# Altium footprint library STSPIN32F0.PcbLib: 1 footprints
Each footprint in its own frame and in the unit in brackets; x right, y up, seen from the top. Pads: shape width x height; smd on the part's side, far side on the other; paste and mask are expansions set on the pad; w line width, h text height; cw(c..) or ccw(c..) is an arc to the next point about the centre after c.
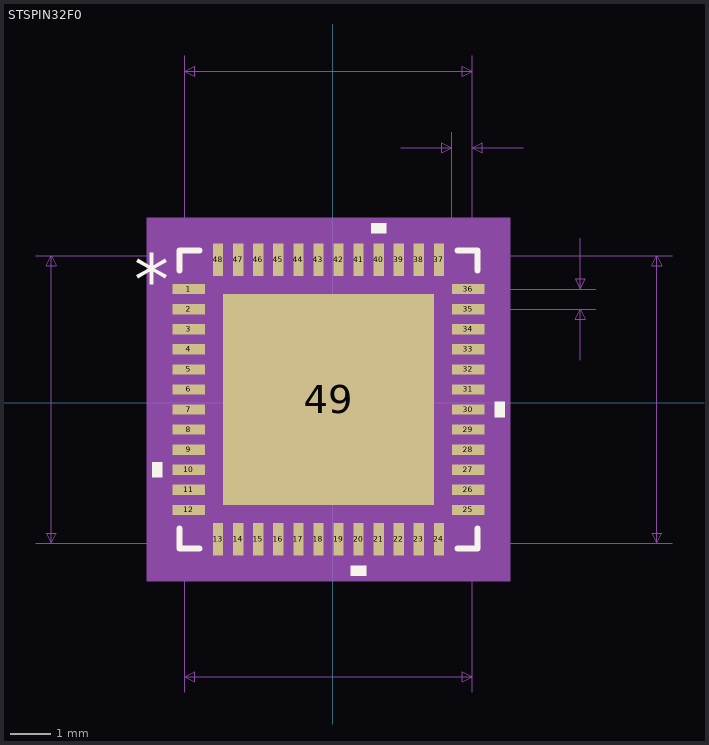
[diagram p0: the footprint, top view; thin cyan lines are the x and y axes]

## STSPIN32F0 [mil]
pads (49):
  rect 32x10 smd paste+0 mask+0: 1(-141.21,111.61) 2(-141.21,91.93) 3(-141.21,72.24) 4(-141.21,52.56) 5(-141.21,32.87) 6(-141.21,13.19) 7(-141.21,-6.5) 8(-141.21,-26.18) 9(-141.21,-45.87) 10(-141.21,-65.55) 11(-141.21,-85.24) 12(-141.21,-104.92) 25(132.79,-104.92) 26(132.79,-85.24) 27(132.79,-65.55) 28(132.79,-45.87) 29(132.79,-26.18) 30(132.79,-6.5) 31(132.79,13.19) 32(132.79,32.87) 33(132.79,52.56) 34(132.79,72.24) 35(132.79,91.93) 36(132.79,111.61)
  rect 10x32 smd paste+0 mask+0: 13(-112.48,-133.65) 14(-92.8,-133.65) 15(-73.11,-133.65) 16(-53.43,-133.65) 17(-33.74,-133.65) 18(-14.06,-133.65) 19(5.63,-133.65) 20(25.32,-133.65) 21(45,-133.65) 22(64.69,-133.65) 23(84.37,-133.65) 24(104.06,-133.65) 37(104.06,140.35) 38(84.37,140.35) 39(64.69,140.35) 40(45,140.35) 41(25.32,140.35) 42(5.63,140.35) 43(-14.06,140.35) 44(-33.74,140.35) 45(-53.43,140.35) 46(-73.11,140.35) 47(-92.8,140.35) 48(-112.48,140.35)
  rect 207x207 smd paste-103 mask+0: 49(-4.21,3.35)
Top Overlay:
  region: -167.21,-58.05 -177.21,-58.05 -177.21,-73.05 -167.21,-73.05
  region: 32.81,-159.65 17.82,-159.65 17.82,-169.65 32.81,-169.65
  region: 158.79,1 168.79,1 168.79,-14 158.79,-14
  region: 52.5,166.35 37.5,166.35 37.5,176.35 52.5,176.35
  lines w6: -150.21,-123.02 -150.21,-142.65 -130.58,-142.65 ; -150.21,129.71 -150.21,149.35 -130.58,149.35 ; 122.16,-142.65 141.79,-142.65 141.79,-123.02 ; 122.16,149.35 141.79,149.35 141.79,129.71
  text "*" at -194.71,96.46 h50
Top Paste:
  region: -59.9,102.91 -103.78,102.91 -103.78,59.03 -59.9,59.03
  region: -59.9,51.16 -103.78,51.16 -103.78,7.28 -59.9,7.28
  region: -59.9,-0.59 -103.78,-0.59 -103.78,-44.47 -59.9,-44.47
  region: -59.9,-52.34 -103.78,-52.34 -103.78,-96.22 -59.9,-96.22
  region: -8.15,102.91 -52.03,102.91 -52.03,59.03 -8.15,59.03
  region: -8.15,51.16 -52.03,51.16 -52.03,7.28 -8.15,7.28
  region: -8.15,-0.59 -52.03,-0.59 -52.03,-44.47 -8.15,-44.47
  region: -8.15,-52.34 -52.03,-52.34 -52.03,-96.22 -8.15,-96.22
  region: 43.6,102.91 -0.28,102.91 -0.28,59.03 43.6,59.03
  region: 43.6,51.16 -0.28,51.16 -0.28,7.28 43.6,7.28
  region: 43.6,-0.59 -0.28,-0.59 -0.28,-44.47 43.6,-44.47
  region: 43.6,-52.34 -0.28,-52.34 -0.28,-96.22 43.6,-96.22
  region: 95.35,102.91 51.47,102.91 51.47,59.03 95.35,59.03
  region: 95.35,51.16 51.47,51.16 51.47,7.28 95.35,7.28
  region: 95.35,-0.59 51.47,-0.59 51.47,-44.47 95.35,-44.47
  region: 95.35,-52.34 51.47,-52.34 51.47,-96.22 95.35,-96.22
Mechanical 5:
  region: 173.79,-174.65 -182.21,-174.65 -182.21,181.35 173.79,181.35
Mechanical 7:
  lines w1: -291.21,-137.65 136.79,-137.65 ; -291.21,144.35 136.79,144.35 136.79,-283.65 ; -145.21,-283.65 -145.21,144.35 ; -145.21,111.61 -145.21,340.35 ; 66.79,250.35 116.79,250.35 ; 104.06,-137.65 332.79,-137.65 ; 104.06,144.35 332.79,144.35 ; 116.79,111.61 116.79,265.35 ; 132.79,91.93 257.79,91.93 ; 132.79,111.61 257.79,111.61 ; 136.79,265.35 136.79,111.61 136.79,340.35 ; 186.79,250.35 136.79,250.35 ; 242.79,41.93 242.79,91.93 ; 242.79,161.61 242.79,111.61 ; -276.21,-137.65 -276.21,144.35 ; -276.21,-137.65 -281.21,-127.65 -271.21,-127.65 -276.21,-137.65 ; -276.21,144.35 -281.21,134.35 -271.21,134.35 -276.21,144.35 ; -145.21,-268.65 136.79,-268.65 ; -145.21,-268.65 -135.21,-263.65 -135.21,-273.65 -145.21,-268.65 ; -145.21,325.35 136.79,325.35 ; -145.21,325.35 -135.21,330.35 -135.21,320.35 -145.21,325.35 ; 116.79,250.35 106.79,255.35 106.79,245.35 116.79,250.35 ; 136.79,-268.65 126.79,-263.65 126.79,-273.65 136.79,-268.65 ; 136.79,250.35 146.79,255.35 146.79,245.35 136.79,250.35 ; 136.79,325.35 126.79,330.35 126.79,320.35 136.79,325.35 ; 242.79,91.93 237.79,81.93 247.79,81.93 242.79,91.93 ; 242.79,111.61 237.79,121.61 247.79,121.61 242.79,111.61 ; 317.79,-137.65 317.79,144.35 ; 317.79,-137.65 312.79,-127.65 322.79,-127.65 317.79,-137.65 ; 317.79,144.35 312.79,134.35 322.79,134.35 317.79,144.35
  text "Default Padstyle: RX10Y32D0T" at -354.21,-459.65 h50
  text "Heat Tab Padstyle: RX207Y207D0T" at -391.71,-519.65 h50
  text "Alt 1 Padstyle: OX60Y90D30P" at -341.71,-639.65 h50
  text "Alt 2 Padstyle: OX90Y60D30P" at -341.71,-699.65 h50
  text "0.02in/0.5mm" at 262.79,89.27 h25
  text "0.02in/0.508mm" at 39.29,270.35 h25
  text "0.282in/7.163mm" at -97.96,345.35 h25
  text "0.282in/7.163mm" at 337.79,-9.15 h25
  text "0.282in/7.163mm" at -483.71,-9.15 h25
  text "0.282in/7.163mm" at -97.96,-313.65 h25
Mechanical 13:
  lines w1: -145.21,94.35 -95.21,144.35 ; -145.21,-137.65 136.79,-137.65 136.79,144.35 -145.21,144.35 -145.21,-137.65 ; -145.21,-110.92 -145.21,-98.92 -145.21,-110.92 ; -145.21,-91.24 -145.21,-79.24 -145.21,-91.24 ; -145.21,-71.55 -145.21,-59.55 -145.21,-71.55 ; -145.21,-51.87 -145.21,-39.87 -145.21,-51.87 ; -145.21,-32.18 -145.21,-20.18 -145.21,-32.18 ; -145.21,-12.5 -145.21,-0.5 -145.21,-12.5 ; -145.21,7.19 -145.21,19.19 -145.21,7.19 ; -145.21,26.87 -145.21,38.87 -145.21,26.87 ; -145.21,46.56 -145.21,58.56 -145.21,46.56 ; -145.21,66.24 -145.21,78.24 -145.21,66.24 ; -145.21,85.93 -145.21,97.93 -145.21,85.93 ; -145.21,105.61 -145.21,117.61 -145.21,105.61 ; -118.48,-137.65 -106.48,-137.65 -118.48,-137.65 ; -118.48,144.35 -106.48,144.35 -118.48,144.35 ; -98.8,-137.65 -86.8,-137.65 -98.8,-137.65 ; -98.8,144.35 -86.8,144.35 -98.8,144.35 ; -79.11,-137.65 -67.11,-137.65 -79.11,-137.65 ; -79.11,144.35 -67.11,144.35 -79.11,144.35 ; -59.43,-137.65 -47.43,-137.65 -59.43,-137.65 ; -59.43,144.35 -47.43,144.35 -59.43,144.35 ; -39.74,-137.65 -27.74,-137.65 -39.74,-137.65 ; -39.74,144.35 -27.74,144.35 -39.74,144.35 ; -20.06,-137.65 -8.06,-137.65 -20.06,-137.65 ; -20.06,144.35 -8.06,144.35 -20.06,144.35 ; -0.37,-137.65 11.63,-137.65 -0.37,-137.65 ; -0.37,144.35 11.63,144.35 -0.37,144.35 ; 19.32,-137.65 31.32,-137.65 19.32,-137.65 ; 19.32,144.35 31.32,144.35 19.32,144.35 ; 39,-137.65 51,-137.65 39,-137.65 ; 39,144.35 51,144.35 39,144.35 ; 58.69,-137.65 70.69,-137.65 58.69,-137.65 ; 58.69,144.35 70.69,144.35 58.69,144.35 ; 78.37,-137.65 90.37,-137.65 78.37,-137.65 ; 78.37,144.35 90.37,144.35 78.37,144.35 ; 98.06,-137.65 110.06,-137.65 98.06,-137.65 ; 98.06,144.35 110.06,144.35 98.06,144.35 ; 136.79,-110.92 136.79,-98.92 136.79,-110.92 ; 136.79,-91.24 136.79,-79.24 136.79,-91.24 ; 136.79,-71.55 136.79,-59.55 136.79,-71.55 ; 136.79,-51.87 136.79,-39.87 136.79,-51.87 ; 136.79,-32.18 136.79,-20.18 136.79,-32.18 ; 136.79,-12.5 136.79,-0.5 136.79,-12.5 ; 136.79,7.19 136.79,19.19 136.79,7.19 ; 136.79,26.87 136.79,38.87 136.79,26.87 ; 136.79,46.56 136.79,58.56 136.79,46.56 ; 136.79,66.24 136.79,78.24 136.79,66.24 ; 136.79,85.93 136.79,97.93 136.79,85.93 ; 136.79,105.61 136.79,117.61 136.79,105.61
  text "*" at -137.71,96.46 h50
Mechanical 15:
  region: -127.48,-147.65 -155.21,-147.65 -155.21,-119.92 -167.21,-119.92 -167.21,126.61 -155.21,126.61 -155.21,154.35 -127.48,154.35 -127.48,166.35 119.06,166.35 119.06,154.35 146.79,154.35 146.79,126.61 158.79,126.61 158.79,-119.92 146.79,-119.92 146.79,-147.65 119.06,-147.65 119.06,-159.65 -127.48,-159.65
  lines w6: -167.21,-119.92 -155.21,-119.92 -155.21,-147.65 -127.48,-147.65 -127.48,-159.65 119.06,-159.65 119.06,-147.65 146.79,-147.65 146.79,-119.92 158.79,-119.92 158.79,126.61 146.79,126.61 146.79,154.35 119.06,154.35 119.06,166.35 -127.48,166.35 -127.48,154.35 -155.21,154.35 -155.21,126.61 -167.21,126.61 -167.21,-119.92
3D body "VFQFPN48_7X7X1_STM.step": height 39.09, standoff 0, extent -145.19,-137.64 136.78,144.34
3D body: height 10, standoff 0, extent -4.21,3.35 5.79,13.35